# Altium schematic symbol library PTS647SN50SMTR2LFS.SchLib: 1 symbol
Pins are listed as number, name and electrical type; pins without a type are passive.

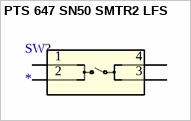
[diagram p0: symbol PTS 647 SN50 SMTR2 LFS]

## PTS 647 SN50 SMTR2 LFS
designator SW?
No Description Available; Mfr_Name: C&K Components; RefDes: RefDes; Type: Type
footprint PTS 647 SN50 SMTR2 LFS
pins: 1, 2, 3, 4